# EAGLE library part SOP-8 (library SOP-8)
SOP-8
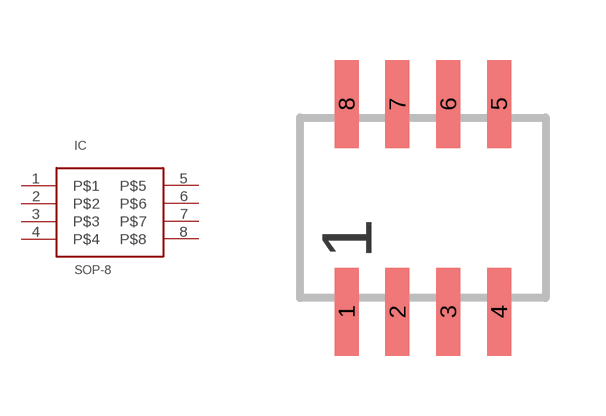
[diagram p0: symbol with the pads of SOP-8; footprint SOP-8]

Designator prefix IC

## SOP-8SOP8 (AVAILABILITY: In Stock; DESCRIPTION: EEPROM Memory IC 2Kb (256 x 8) I²C 1MHz 550ns 8-Mini Map (2x3); MF: Microchip; MP: AT24C02; PACKAGE: UDFN-8 Microchip; PRICE: None; PURCHASE-URL: https://pricing.snapeda.com/search/part/AT24C02/?ref=eda)  [SOP-8]
1  P$1
2  P$2
3  P$3
4  P$4
5  P$5
6  P$6
7  P$7
8  P$8

## Footprint SOP-8 (pad centres in mm)
SMALL OUTLINE PACKAGE
smd 0.6 x 2.2: 1 -1.905,-2.6; 2 -0.635,-2.6; 3 0.635,-2.6; 4 1.905,-2.6; 5 1.905,2.6; 6 0.635,2.6; 7 -0.635,2.6; 8 -1.905,2.6